# EAGLE library part MOEKOE_TVHD1552 (library sensortag_motherboard_v004)
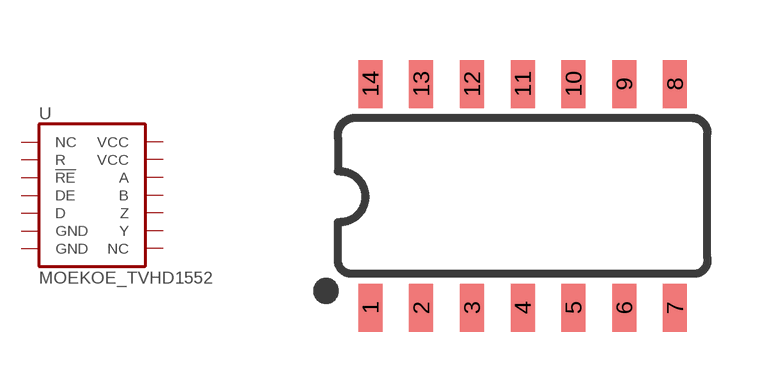
[diagram p7: symbol with the pads of MOEKOE_SO14; footprint MOEKOE_SO14]

Designator prefix -

## MOEKOE_TVHD1552  [MOEKOE_SO14]
1  NC
2  R
3  !RE
4  DE
5  D
6  GND
7  GND
8  NC
9  Y
10  Z
11  B
12  A
13  VCC
14  VCC

## Footprint MOEKOE_SO14 (pad centres in mm)
SOIC, 0.15 inch width
smd 0.6 x 1.2: 1 -3.175,-2.8; 2 -1.905,-2.8; 3 -0.635,-2.8; 4 0.635,-2.8; 5 1.905,-2.8; 6 3.175,-2.8; 7 4.445,-2.8; 8 4.445,2.8; 9 3.175,2.8; 10 1.905,2.8; 11 0.635,2.8; 12 -0.635,2.8; 13 -1.905,2.8; 14 -3.175,2.8